# Altium footprint library 74660014.PcbLib: 1 footprints
Each footprint in its own frame and in the unit in brackets; x right, y up, seen from the top. Pads: shape width x height; smd on the part's side, far side on the other; paste and mask are expansions set on the pad; w line width, h text height; cw(c..) or ccw(c..) is an arc to the next point about the centre after c.
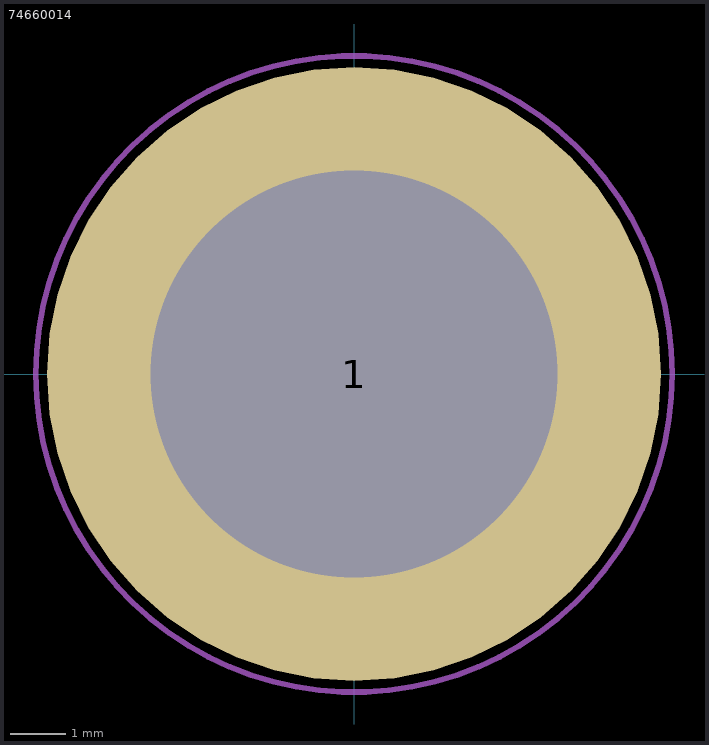
[diagram p0: the footprint, top view; thin cyan lines are the x and y axes]

## 74660014 [mm]
pads (1):
  round 11 hole 7.3 mask+0.05: 1(0,0)
Top Paste:
  region: -5.362,-0.502 -5.334,-0.813 -5.205,-1.423 -5.006,-2.015 -4.741,-2.581 -4.413,-3.111 -4.025,-3.601 -3.584,-4.042 -3.094,-4.43 -2.564,-4.759 -1.999,-5.024 -1.407,-5.223 -0.796,-5.352 -0.485,-5.381 -0.485,-3.754 -0.481,-3.721 -0.782,-3.668 -1.367,-3.49 -1.915,-3.219 -2.412,-2.863 -2.844,-2.431 -3.201,-1.934 -3.471,-1.386 -3.65,-0.801 -3.702,-0.5 -3.735,-0.504
  region: -0.483,5.373 -0.794,5.344 -1.405,5.216 -1.997,5.017 -2.562,4.752 -3.093,4.423 -3.582,4.036 -4.024,3.595 -4.411,3.105 -4.74,2.575 -5.006,2.01 -5.204,1.418 -5.333,0.807 -5.362,0.496 -3.735,0.496 -3.702,0.492 -3.65,0.793 -3.471,1.378 -3.201,1.926 -2.844,2.423 -2.412,2.855 -1.915,3.211 -1.367,3.482 -0.782,3.66 -0.481,3.713 -0.485,3.746
  region: 5.392,0.494 5.363,0.805 5.234,1.416 5.036,2.008 4.771,2.573 4.442,3.104 4.055,3.593 3.613,4.034 3.124,4.422 2.593,4.751 2.028,5.016 1.436,5.215 0.826,5.344 0.515,5.373 0.515,3.746 0.51,3.713 0.812,3.66 1.396,3.482 1.945,3.211 2.441,2.855 2.874,2.423 3.23,1.926 3.501,1.378 3.679,0.793 3.732,0.492 3.765,0.496
  region: 0.498,-5.377 0.809,-5.348 1.42,-5.219 2.011,-5.021 2.577,-4.756 3.107,-4.427 3.597,-4.04 4.038,-3.598 4.426,-3.109 4.755,-2.578 5.02,-2.013 5.219,-1.422 5.348,-0.811 5.377,-0.5 3.75,-0.5 3.717,-0.496 3.664,-0.797 3.486,-1.382 3.215,-1.93 2.859,-2.427 2.427,-2.859 1.93,-3.215 1.382,-3.486 0.797,-3.664 0.496,-3.717 0.5,-3.75
Top Assembly:
  circle w0.1: c0,0 r5
Top Courtyard:
  circle w0.1: c0,0 r5.7
3D body "Download_step_74660014 (rev1).stp": height 3, standoff -2.6, extent -5,-5 5,5